# EAGLE library part 79109-24_S (library con-molex-milli-grid)
RECEPTACAL
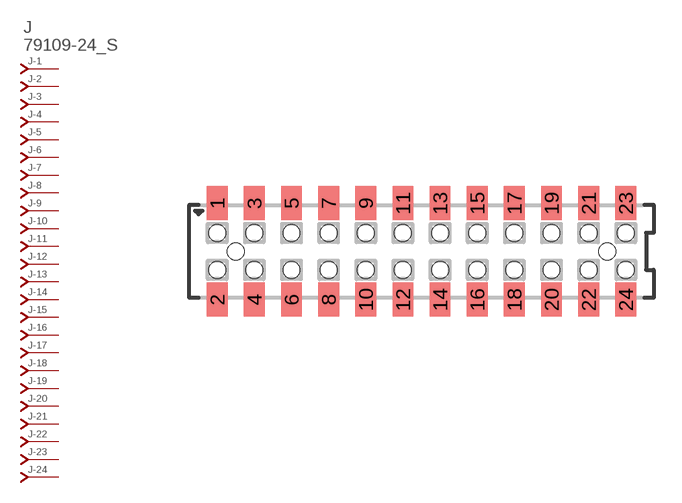
[diagram p268: symbol with the pads of 79109-24; footprint 79109-24]

Designator prefix J; gates -1=J-NV -2=J-N -3=J-N -4=J-N -5=J-N -6=J-N -7=J-N -8=J-N -9=J-N -10=J-N -11=J-N -12=J-N -13=J-N -14=J-N -15=J-N -16=J-N -17=J-N -18=J-N -19=J-N -20=J-N -21=J-N -22=J-N -23=J-N -24=J-N

## 79109-24_S  [79109-24]
1  -1:J  pas
2  -2:J  pas
3  -3:J  pas
4  -4:J  pas
5  -5:J  pas
6  -6:J  pas
7  -7:J  pas
8  -8:J  pas
9  -9:J  pas
10  -10:J  pas
11  -11:J  pas
12  -12:J  pas
13  -13:J  pas
14  -14:J  pas
15  -15:J  pas
16  -16:J  pas
17  -17:J  pas
18  -18:J  pas
19  -19:J  pas
20  -20:J  pas
21  -21:J  pas
22  -22:J  pas
23  -23:J  pas
24  -24:J  pas

## Footprint 79109-24 (pad centres in mm)
RECEPTACAL SMD Dual Row, Vertical, Pass-Thru
smd 1.12 x 1.83: 1 -11,2.6; 2 -11,-2.6; 3 -9,2.6; 4 -9,-2.6; 5 -7,2.6; 6 -7,-2.6; 7 -5,2.6; 8 -5,-2.6; 9 -3,2.6; 10 -3,-2.6; 11 -1,2.6; 12 -1,-2.6; 13 1,2.6; 14 1,-2.6; 15 3,2.6; 16 3,-2.6; 17 5,2.6; 18 5,-2.6; 19 7,2.6; 20 7,-2.6; 21 9,2.6; 22 9,-2.6; 23 11,2.6; 24 11,-2.6
hole 0.914 at -10,0
hole 0.914 at -11,1
hole 0.914 at -11,-1
hole 0.914 at -9,-1
hole 0.914 at -9,1
hole 0.914 at -7,-1
hole 0.914 at -7,1
hole 0.914 at 10,0
hole 0.914 at -5,1
hole 0.914 at -5,-1
hole 0.914 at -3,1
hole 0.914 at -3,-1
hole 0.914 at -1,1
hole 0.914 at -1,-1
hole 0.914 at 1,1
hole 0.914 at 1,-1
hole 0.914 at 3,-1
hole 0.914 at 3,1
hole 0.914 at 5,1
hole 0.914 at 5,-1
hole 0.914 at 7,1
hole 0.914 at 7,-1
hole 0.914 at 9,1
hole 0.914 at 9,-1
hole 0.914 at 11,-1
hole 0.914 at 11,1